# Altium footprint library LED_HSMM-C170.PcbLib: 1 footprints
Each footprint in its own frame and in the unit in brackets; x right, y up, seen from the top. Pads: shape width x height; smd on the part's side, far side on the other; paste and mask are expansions set on the pad; w line width, h text height; cw(c..) or ccw(c..) is an arc to the next point about the centre after c.
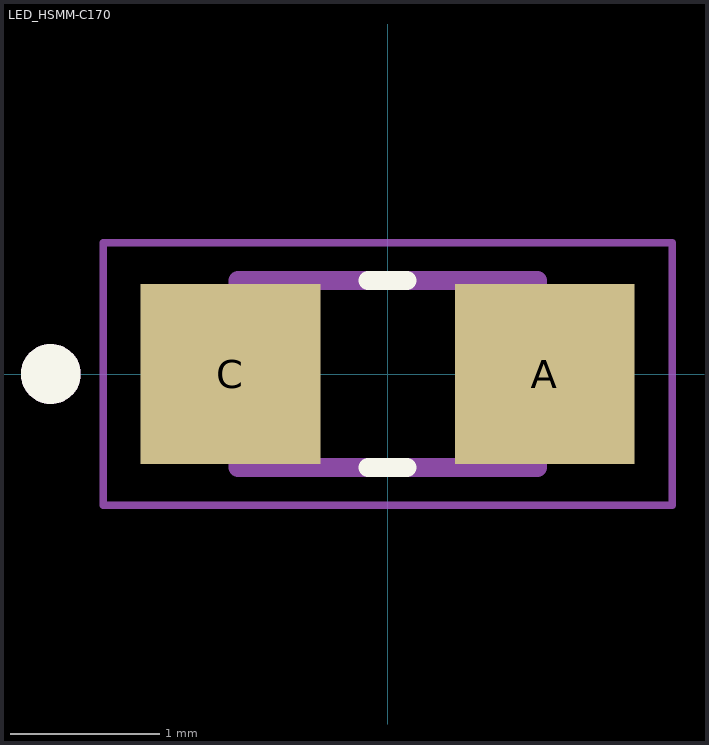
[diagram p0: the footprint, top view; thin cyan lines are the x and y axes]

## LED_HSMM-C170 [mm]
height 0.8
pads (2):
  rect 1.2x1.2 smd: A(1.05,0) C(-1.05,0)
Top Overlay:
  circle w0.2: c-2.25,0 r0.1
  lines w0.127: -0.13,-0.625 0.13,-0.625 ; -0.13,0.625 0.13,0.625
Mechanical 13:
  circle w0.2: c-2.25,0 r0.1
  lines w0.127: -1,-0.625 -1,0.625 1,0.625 1,-0.625 -1,-0.625
Mechanical 15:
  lines w0.05: -1.9,-0.875 -1.9,0.875 1.9,0.875 1.9,-0.875 -1.9,-0.875
3D body "step_temp.STEP": height 0.8, standoff 0, extent -1,-0.625 1,0.625